# EAGLE library part TI-TPS61372YKBT (library EagleLibrary)
Boost converter Synchronous 16-V 3.8-A
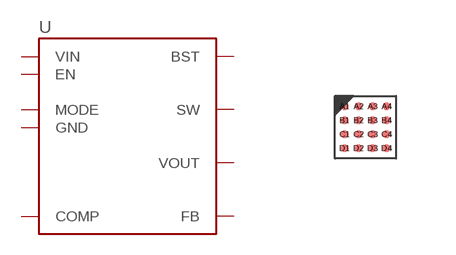
[diagram p0: symbol with the pads of TI-TPS61372YKBT; footprint TI-TPS61372YKBT]

Designator prefix U

## TI-TPS61372YKBT (MFG: Texas Instruments; PN: TPS61372YKBT)  [TI-TPS61372YKBT]
A1  FB
A2  COMP
A3  VIN
A4  MODE
B1  GND
B2  GND
B3  GND
B4  EN
C1  SW
C2  SW
C3  SW
C4  BST
D1  VOUT
D2  VOUT
D3  VOUT
D4  VIN

## Footprint TI-TPS61372YKBT (pad centres in mm)
16-BGA, collapsing, 0.35 mm pitch, 1.55 X 1.50 X 0.50 mm body 16-pin collapsing BGA package with 0.35 mm col pitch and 0.35 mm row pitch with body size 1.55 X 1.50 X 0.50 mm
smd 0.2 x 0.2: A1 -0.525,0.525; A2 -0.175,0.525; A3 0.175,0.525; A4 0.525,0.525; B1 -0.525,0.175; B2 -0.175,0.175; B3 0.175,0.175; B4 0.525,0.175; C1 -0.525,-0.175; C2 -0.175,-0.175; C3 0.175,-0.175; C4 0.525,-0.175; D1 -0.525,-0.525; D2 -0.175,-0.525; D3 0.175,-0.525; D4 0.525,-0.525